# Altium footprint library SSOP.PcbLib: 1 footprints
Each footprint in its own frame and in the unit in brackets; x right, y up, seen from the top. Pads: shape width x height; smd on the part's side, far side on the other; paste and mask are expansions set on the pad; w line width, h text height; cw(c..) or ccw(c..) is an arc to the next point about the centre after c.
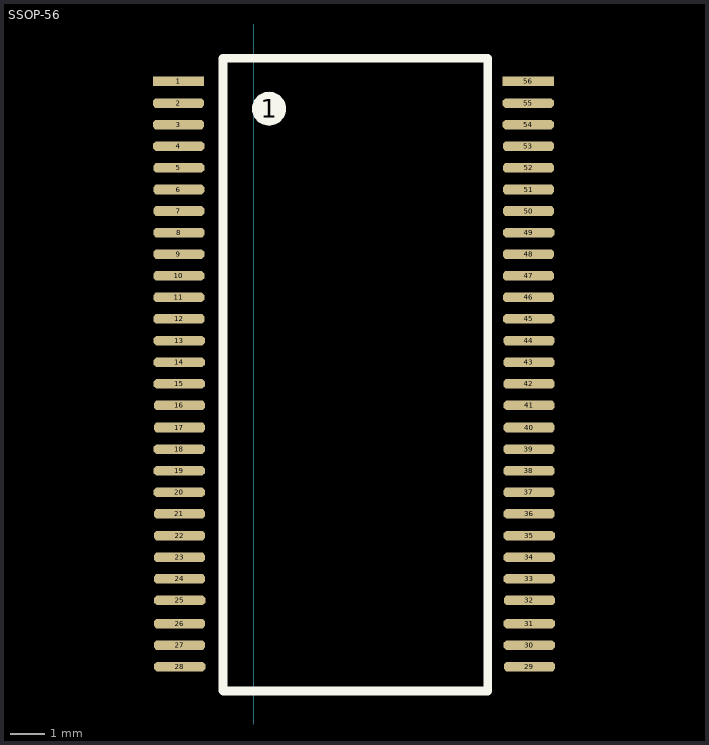
[diagram p0: the footprint, top view; thin cyan lines are the x and y axes]

## SSOP-56 [mm]
pads (57):
  rect 1.5x0.28 smd: 1(-2.2,-4.6) 56(8.04,-4.6)
  round 1 on Top Overlay: 1(0.45,-5.4)
  oct 1.5x0.28 smd: 2(-2.2,-5.235) 3(-2.2,-5.865) 4(-2.195,-6.495) 5(-2.19,-7.13) 6(-2.19,-7.765) 7(-2.19,-8.395) 8(-2.185,-9.025) 9(-2.19,-9.66) 10(-2.19,-10.295) 11(-2.19,-10.925) 12(-2.185,-11.555) 13(-2.18,-12.19) 14(-2.18,-12.825) 15(-2.18,-13.455) 16(-2.175,-14.085) 17(-2.175,-14.735) 18(-2.18,-15.37) 19(-2.18,-16.005) 20(-2.18,-16.635) 21(-2.175,-17.265) 22(-2.17,-17.9) 23(-2.17,-18.535) 24(-2.17,-19.165) 25(-2.165,-19.795) 26(-2.17,-20.475) 27(-2.17,-21.105) 28(-2.165,-21.735) 29(8.075,-21.735) 30(8.07,-21.105) 31(8.07,-20.475) 32(8.075,-19.795) 33(8.07,-19.165) 34(8.07,-18.535) 35(8.07,-17.9) 36(8.065,-17.265) 37(8.06,-16.635) 38(8.06,-16.005) 39(8.06,-15.37) 40(8.065,-14.735) 41(8.065,-14.085) 42(8.06,-13.455) 43(8.06,-12.825) 44(8.06,-12.19) 45(8.055,-11.555) 46(8.05,-10.925) 47(8.05,-10.295) 48(8.05,-9.66) 49(8.055,-9.025) 50(8.05,-8.395) 51(8.05,-7.765) 52(8.05,-7.13) 53(8.045,-6.495) 54(8.04,-5.865) 55(8.04,-5.235)
Top Overlay:
  lines w0.254: -0.9,-3.99 -0.9,-22.44 -0.89,-22.45 6.85,-22.45 6.85,-3.92 -0.9,-3.92